# EAGLE library part CONN_08 (library pic_board_lib)
Multi connection point. Often used as Generic Header-pin footprint for 0.1 inch spaced/style header connections On any of the 0.1 inch spaced packages, you can populate with these: Break Away Headers - Straight <https://www.sparkfun.com/products/116> (PRT-00116) Break Away Male Headers - Right Angle <https://www.sparkfun.com/products/553> (PRT-00553) Female Headers <https://www.sparkfun.com/products/115> (PRT-00115) Break Away Headers - Machine Pin <https://www.sparkfun.com/products/117> (PRT-00117) Break Away Female Headers - Swiss Machine Pin <https://www.sparkfun.com/products/743> (PRT-00743) Arduino Stackable Header - 8 Pin <https://www.sparkfun.com/products/9279> (PRT-09279) For SCREWTERMINALS and SPRING TERMINALS visit here: Screw Terimnals on SparkFun.com <https://www.sparkfun.com/search/results?term=Screw+Terminals> (5mm/3.5mm/2.54mm spacing) This device is also useful as a general connection point to wire up your design to another part of your project. Our various solder wires solder well into these plated through hole pads. Hook-Up Wire - Assortment (Stranded, 22 AWG) <https://www.sparkfun.com/products/11375> (PRT-11375) Hook-Up Wire - Assortment (Solid Core, 22 AWG) <https://www.sparkfun.com/products/11367> (PRT-11367) View the entire wire category on our website here <https://www.sparkfun.com/categories/141> Special notes: Molex polarized connector foot print use with SKU : PRT-08231 with associated crimp pins and housings. 1MM SMD Version SKU: PRT-10208 NOTES ON THE VARIANTS LOCK and LOCK_LONGPADS... This footprint was designed to help hold the alignment of a through-hole component (i.e. 6-pin header) while soldering it into place. You may notice that each hole has been shifted either up or down by 0.005 of an inch from it's more standard position (which is a perfectly straight line). This slight alteration caused the pins (the squares in the middle) to touch the edges of the holes. Because they are alternating, it causes a "brace" to hold the component in place. 0.005 has proven to be the perfect amount of "off-center" position when using our standard breakaway headers. Although looks a little odd when you look at the bare footprint, once you have a header in there, the alteration is very hard to notice. Also,if you push a header all the way into place, it is covered up entirely on the bottom side.
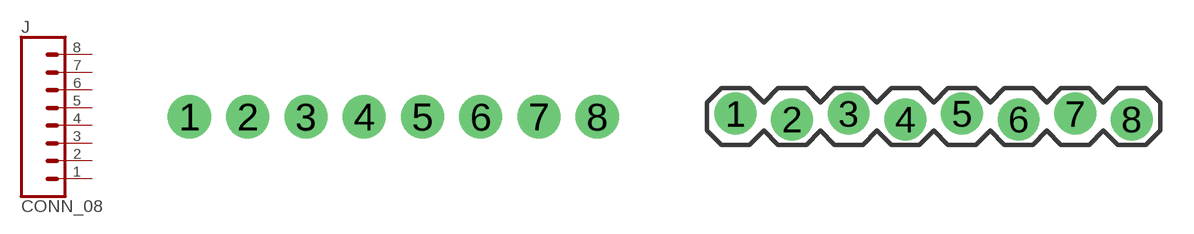
[diagram p7: symbol with the pads of 1X08; footprints 1X08, 1X08_LOCK]

Designator prefix J

## CONN_08" (PROD_ID: CONN-08438)  [1X08]
1  1  pas
2  2  pas
3  3  pas
4  4  pas
5  5  pas
6  6  pas
7  7  pas
8  8  pas

## CONN_08LOCK  [1X08_LOCK]
Pads as for 1X08

## CONN_08LOCK_LONGPADS  [1X08_LOCK_LONGPADS]
Pads as for 1X08

## CONN_08LONGPADS  [1X08_LONGPADS]
Pads as for 1X08

## CONN_083.5MM-8 (PROD_ID: Combine 14485+14885)  [SCREWTERMINAL-3.5MM-8]
Pads as for 1X08

## CONN_08SMD-STRAIGHT-FEMALE (PROD_ID: CONN-10204; SF_ID: PRT-11543)  [1X08_SMD]
Pads as for 1X08

## CONN_08SMD-STRAIGHT-ALT-FEMALE (PROD_ID: CONN-10204; SF_ID: PRT-11543)  [1X08_SMD_ALT]
Pads as for 1X08

## CONN_08SMD-COMBO-FEMALE (PROD_ID: CONN-10204; SF_ID: PRT-11543)  [1X08_SMD_COMBINED]
Pads as for 1X08

## CONN_08BM08B-SRSS-TB (PROD_ID: CONN-10556)  [BM08B-SRSS-TB]
Pads as for 1X08

## CONN_08SMD-MALE (PROD_ID: CONN-11292; SF_ID: PRT-11541)  [1X08_SMD_MALE]
Pads as for 1X08

## CONN_08NO_SILK_FEMALE_PTH (PROD_ID: CONN-08438)  [1X08_NO_SILK]
Pads as for 1X08

## CONN_08LOCK_NO_SILK  [1X08_LOCK_NO_SILK]
Pads as for 1X08

## CONN_08FEMALE_LOCK (PROD_ID: CONN-09233; SF_ID: PRT-09279)  [1X08_FEMALE_LOCK]
Pads as for 1X08

## CONN_08SMD-COMBO-FEMALE_NC (PROD_ID: CONN-10204)  [1X08_SMD_COMBINED_NC]
1  1  pas
1@2  1  pas
2  2  pas
2@2  2  pas
3  3  pas
3@2  3  pas
4  4  pas
4@2  4  pas
5  5  pas
5@2  5  pas
6  6  pas
6@2  6  pas
7  7  pas
7@2  7  pas
8  8  pas
8@2  8  pas

## CONN_08NO_SILK_DNP  [1X08_NO_SILK]
Pads as for 1X08

## Footprint 1X08 (pad centres in mm)
Plated Through Hole -8 Pin Specifications: Pin count:8 Pin pitch:0.1" Example device(s): CONN_08
drill 1.016 pad 1.88: 1 0,0; 2 2.54,0; 3 5.08,0; 4 7.62,0; 5 10.16,0; 6 12.7,0; 7 15.24,0; 8 17.78,0

## Footprint 1X08_LOCK (pad centres in mm)
Plated Through Hole -8 Pin Locking Footprint Holes are offset 0.005", to hold pins in place during soldering. Specifications: Pin count:8 Pin pitch:0.1" Example device(s): CONN_08
drill 1.016 pad 1.88: 1 0,0.127; 2 2.54,-0.127; 3 5.08,0.127; 4 7.62,-0.127; 5 10.16,0.127; 6 12.7,-0.127; 7 15.24,0.127; 8 17.78,-0.127

## Footprint 1X08_LOCK_LONGPADS (pad centres in mm)
Plated Through Hole -8 Pin Locking Footprint with Long Pads Holes are offset 0.005", to hold pins in place during soldering. Specifications: Pin count:8 Pin pitch:0.1" Example device(s): CONN_08
drill 1.016 long: 1 0,0.127; 2 2.54,-0.127; 3 5.08,0.127; 4 7.62,-0.127; 5 10.16,0.127; 6 12.7,-0.127; 7 15.24,0.127; 8 17.78,-0.127

## Footprint 1X08_LONGPADS (pad centres in mm)
Plated Through Hole -8 Pin Long Pads Specifications: Pin count:8 Pin pitch:0.1" Example device(s): CONN_08
drill 1.118 pad 1.88 long: 1 0,0; 2 2.54,0; 3 5.08,0; 4 7.62,0; 5 10.16,0; 6 12.7,0; 7 15.24,0; 8 17.78,0

## Footprint SCREWTERMINAL-3.5MM-8 (pad centres in mm)
Screw Terminal 3.5mm Pitch -8 Pin PTH Specifications: Pin count: 8 Pin pitch: 3.5mm/138mil Datasheet referenced for footprint <https://www.sparkfun.com/datasheets/Prototyping/Screw-Terminal-3.5mm.pdf> Example device(s): CONN_08
drill 1.2 pad 2.032: 1 0,0; 2 3.5,0; 3 7,0; 4 10.5,0; 5 14,0; 6 17.5,0; 7 21,0; 8 24.5,0

## Footprint 1X08_SMD (pad centres in mm)
SMD -8 Pin Vertical Female Specifications: Pin count:8 Pin pitch:0.1" Datasheet referenced for footprint <http://cdn.sparkfun.com/datasheets/Prototyping/femaleSMDheader.pdf> Example device(s): CONN_08
smd 1 x 2: 1 0,1.65; 2 -2.54,-1.65; 3 -5.08,1.65; 4 -7.62,-1.65; 5 -10.16,1.65; 6 -12.7,-1.65; 7 -15.24,1.65; 8 -17.78,-1.65

## Footprint 1X08_SMD_ALT (pad centres in mm)
SMD -8 Pin Vertical Female Alternate pin configuration Specifications: Pin count:8 Pin pitch:0.1" Datasheet referenced for footprint <http://cdn.sparkfun.com/datasheets/Prototyping/femaleSMDheader.pdf> Example device(s): CONN_08
smd 1 x 2: 1 0,-1.65; 2 -2.54,1.65; 3 -5.08,-1.65; 4 -7.62,1.65; 5 -10.16,-1.65; 6 -12.7,1.65; 7 -15.24,-1.65; 8 -17.78,1.65

## Footprint 1X08_SMD_COMBINED (pad centres in mm)
SMD -8 Pin Vertical Female Combined footprint configuration Specifications: Pin count:8 Pin pitch:0.1" Datasheet referenced for footprint <http://cdn.sparkfun.com/datasheets/Prototyping/femaleSMDheader.pdf> Example device(s): CONN_08
smd 1 x 2: 1 0,1.65; 2 2.54,1.65; 3 5.08,1.65; 4 7.62,1.652; 5 10.16,1.65; 6 12.7,1.652; 7 15.24,1.65; 8 17.78,1.652

## Footprint BM08B-SRSS-TB (pad centres in mm)
JST Vertical Crimp Connect Specifications: Pin count: 8 Pin pitch:1mm Datasheet referenced for footprint <http://www.jst-mfg.com/product/pdf/eng/eSR.pdf> Example device(s): CONN_08
smd 0.6 x 1.55: 1 -3.5,0; 2 -2.5,0; 3 -1.5,0; 4 -0.5,0; 5 0.5,0; 6 1.5,0; 7 2.5,0; 8 3.5,0
smd 1.2 x 1.8: P$9 4.8,2.525; P$10 -4.8,2.525

## Footprint 1X08_SMD_MALE (pad centres in mm)
SMD -8 Pin Vertical Male Specifications: Pin count:8 Pin pitch:0.1" Datasheet referenced for footprint <http://cdn.sparkfun.com/datasheets/Prototyping/maleSMDheader.pdf> Example device(s): CONN_08
smd 1.02 x 6: 1 0,0; 2 2.54,0; 3 5.08,0; 4 7.62,0; 5 10.16,0; 6 12.7,0; 7 15.24,0; 8 17.78,0

## Footprint 1X08_NO_SILK (pad centres in mm)
Plated Through Hole -8 Pin No Silk Specifications: Pin count:8 Pin pitch:0.1" Example device(s): CONN_08
drill 1.016 pad 1.88: 1 0,0; 2 2.54,0; 3 5.08,0; 4 7.62,0; 5 10.16,0; 6 12.7,0; 7 15.24,0; 8 17.78,0

## Footprint 1X08_LOCK_NO_SILK (pad centres in mm)
Plated Through Hole -8 Pin Locking Footprint No Silk Holes are offset 0.005", to hold pins in place during soldering. Specifications: Pin count:8 Pin pitch:0.1" Example device(s): CONN_08
drill 1.016 pad 1.88: 1 0,0.127; 2 2.54,-0.127; 3 5.08,0.127; 4 7.62,-0.127; 5 10.16,0.127; 6 12.7,-0.127; 7 15.24,0.127; 8 17.78,-0.127

## Footprint 1X08_FEMALE_LOCK (pad centres in mm)
Plated Through Hole -8 Pin Locking Female Headers Holes are offset 0.005" to hold pins in place during soldering. Specifications: Pin count:8 Pin pitch:0.1" Datasheet referenced for footprint <https://cdn.sparkfun.com/datasheets/Prototyping/SP-140520-XX-001.pdf> Example device(s): CONN_08
drill 1.016 pad 1.88: 1 0,0.229; 2 2.54,-0.229; 3 5.08,0.229; 4 7.62,-0.229; 5 10.16,0.229; 6 12.7,-0.229; 7 15.24,0.229; 8 17.78,-0.229

## Footprint 1X08_SMD_COMBINED_NC (pad centres in mm)
smd 1 x 2: 1 -17.78,1.65; 1@2 -17.78,-1.65; 2 -15.24,-1.65; 2@2 -15.24,1.65; 3 -12.7,1.65; 3@2 -12.7,-1.65; 4 -10.16,-1.65; 4@2 -10.16,1.65; 5 -7.62,1.65; 5@2 -7.62,-1.65; 6 -5.08,-1.65; 6@2 -5.08,1.65; 7 -2.54,1.65; 7@2 -2.54,-1.65; 8 0,-1.65; 8@2 0,1.65